# EAGLE library part TEN25_1 (library 000001)
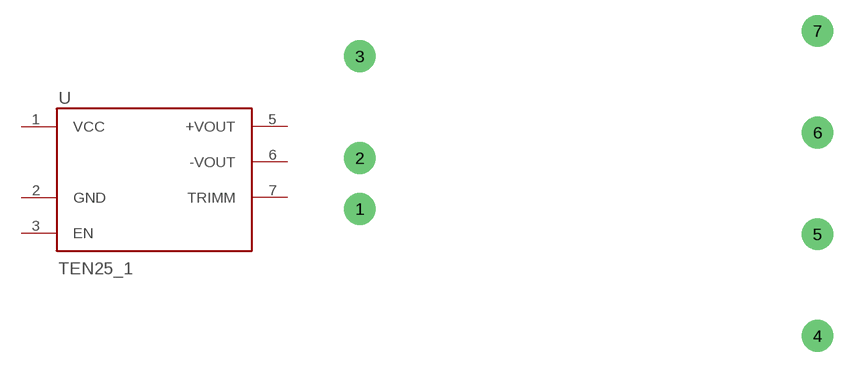
[diagram p98: symbol with the pads of TEN25; footprint TEN25]

Designator prefix -

## TEN25_1  [TEN25]
1  VCC  pwr
2  GND  pwr
3  EN  in
5  +VOUT  pwr
6  -VOUT  pwr
7  TRIMM  pwr

## Footprint TEN25 (pad centres in mm)
drill 0.5 pad 3.175 round: 1 -22.86,-2.54; 2 -22.86,2.54; 3 -22.86,12.7; 4 22.86,-15.24; 5 22.86,-5.08; 6 22.86,5.08; 7 22.86,15.24